# Altium schematic symbol library BMM150.SchLib: 2 symbols
Pins are listed as number, name and electrical type; pins without a type are passive.

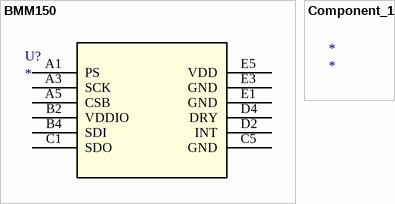
[diagram p0: symbols BMM150 to Component_1]

## BMM150
designator U?
Imported; Manufacturer_Part_Number: BMM150; Vendor: Bosch; Built_By: EMA_UL_Team; C: Copyright (C) 2016 Accelerated Designs. All rights reserved; RefDes: RefDes; Type: DEV; Value: Value
footprint BGA_1590X1590
pins: A1 PS, A3 SCK, A5 CSB, B2 VDDIO, B4 SDI, C1 SDO, C5 GND, D2 INT, D4 DRY, E1 GND, E3 GND, E5 VDD

## Component_1
designator *